# EAGLE library part OPA547 (library opamps)
OPA547: High voltage, high current opamp (Burr-Brown) ±30V, ±500mA, 500nA bias 5mV offset, 1MHz UGF, 90nV/rt(Hz) noise
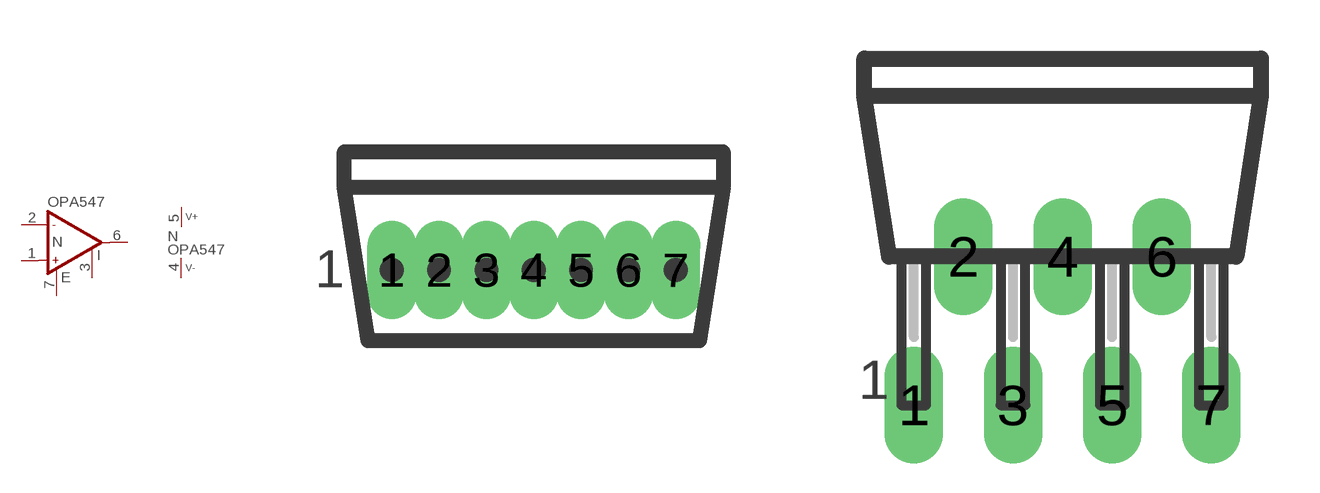
[diagram p235: symbol with the pads of TO220-7; footprints TO220-7, TO220-7A]

Designator prefix N; gates A=OPA548 P=V+-

## OPA547  [TO220-7]
1  A:OP+  in
2  A:OP-  in
3  A:I
4  P:V-  pwr
5  P:V+  pwr
6  A:OPO  out
7  A:E

## OPA547A  [TO220-7A]
Pads as for TO220-7

## OPA547S  [TO263-7]
Pads as for TO220-7

## Footprint TO220-7 (pad centres in mm)
TO-220 Power package, 7 pins
drill 0.813 pad 1.016 long: 1 -3.81,0; 2 -2.54,0; 3 -1.27,0; 4 0,0; 5 1.27,0; 6 2.54,0; 7 3.81,0

## Footprint TO220-7A (pad centres in mm)
TO-220, alternating pads Power package, 7 pins
drill 0.991 pad 1.397 long: 1 -3.81,-1.27; 2 -2.54,2.54; 3 -1.27,-1.27; 4 0,2.54; 5 1.27,-1.27; 6 2.54,2.54; 7 3.81,-1.27

## Footprint TO263-7 (pad centres in mm)
TO-263 SMD power pac, 7 pins
smd 0.914 x 5.08: 1 -3.81,-0.318; 2 -2.54,-0.318; 3 -1.27,-0.318; 4 0,-0.318; 5 1.27,-0.318; 6 2.54,-0.318; 7 3.81,-0.318
smd 10.414 x 11.938: CASE 0,9.525